# Altium footprint library OKmePCBLibrary.PcbLib: 197 footprints (part 7 of 13)
Each footprint in its own frame and in the unit in brackets; x right, y up, seen from the top. Pads: shape width x height; smd on the part's side, far side on the other; paste and mask are expansions set on the pad; w line width, h text height; cw(c..) or ccw(c..) is an arc to the next point about the centre after c.
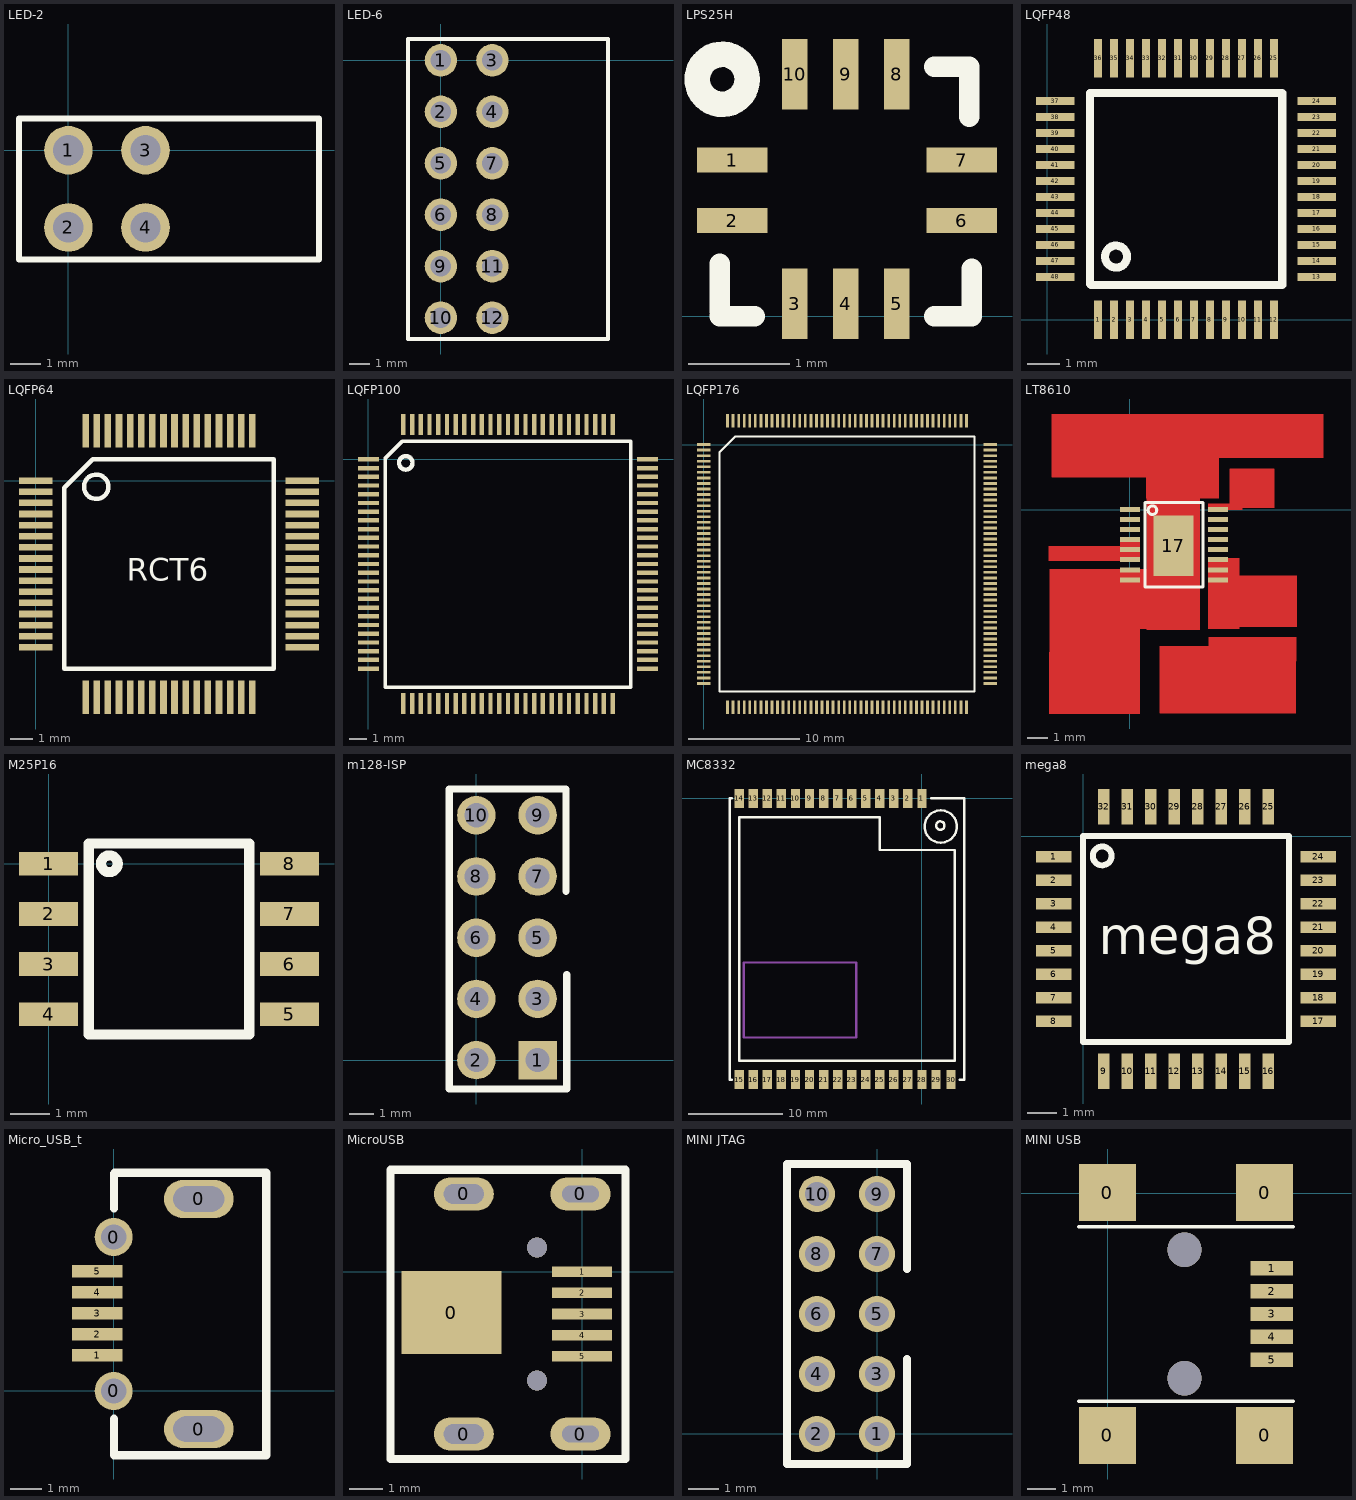
[diagram p6: the footprints below, top view; thin cyan lines are the x and y axes]

## LED-2 [mm]
pads (4):
  round 1.6 hole 1: 1(0,0) 2(0,-2.54) 3(2.54,0) 4(2.54,-2.54)
Top Overlay:
  lines w0.2: -1.625,-3.6 8.25,-3.6 8.25,1.05 -1.625,1.05 -1.625,-3.6

## LED-6 [mm]
pads (12):
  round 1.6 hole 1: 1(0,0) 2(0,-2.54) 3(2.54,0) 4(2.54,-2.54) 5(0,-5.08) 6(0,-7.62) 7(2.54,-5.08) 8(2.54,-7.62) 9(0,-10.16) 10(0,-12.7) 11(2.54,-10.16) 12(2.54,-12.7)
Top Overlay:
  lines w0.2: -1.625,-13.75 -1.625,1.05 8.25,1.05 8.25,-13.75 -1.625,-13.75

## LPS25H [mm]
pads (10):
  rect 0.7x0.25 smd: 1(0.675,1.55) 2(0.675,0.95) 6(2.95,0.95) 7(2.95,1.55)
  rect 0.25x0.7 smd: 3(1.295,0.125) 4(1.8,0.125) 5(2.305,0.125) 8(2.305,2.4) 9(1.8,2.4) 10(1.295,2.4)
Top Overlay:
  circle w0.254: c0.575,2.35 r0.247
  lines w0.2: 0.55,0 0.9,0 ; 0.55,0.05 0.55,0.525 ; 2.675,0 3.05,0 3.05,0.475 ; 2.675,2.475 3.025,2.475 3.025,1.975

## LQFP48 [mm]
pads (48):
  rect 0.25x1.2 smd: 1(1.6,0) 2(2.1,0) 3(2.6,0) 4(3.1,0) 5(3.6,0) 6(4.1,0) 7(4.6,0) 8(5.1,0) 9(5.6,0) 10(6.1,0) 11(6.6,0) 12(7.1,0) 25(7.1,8.2) 26(6.6,8.2) 27(6.1,8.2) 28(5.6,8.2) 29(5.1,8.2) 30(4.6,8.2) 31(4.1,8.2) 32(3.6,8.2) 33(3.1,8.2) 34(2.6,8.2) 35(2.1,8.2) 36(1.6,8.2)
  rect 1.2x0.25 smd: 13(8.45,1.35) 14(8.45,1.85) 15(8.45,2.35) 16(8.45,2.85) 17(8.45,3.35) 18(8.45,3.85) 19(8.45,4.35) 20(8.45,4.85) 21(8.45,5.35) 22(8.45,5.85) 23(8.45,6.35) 24(8.45,6.85) 37(0.25,6.85) 38(0.25,6.35) 39(0.25,5.85) 40(0.25,5.35) 41(0.25,4.85) 42(0.25,4.35) 43(0.25,3.85) 44(0.25,3.35) 45(0.25,2.85) 46(0.25,2.35) 47(0.25,1.85) 48(0.25,1.35)
Top Overlay:
  circle w0.254: c2.159,1.981 r0.345
  lines w0.254: 1.346,1.118 1.346,7.112 7.366,7.112 7.366,1.092 1.371,1.092 1.346,1.118

## LQFP64 [mm]
pads (64):
  rect 1.5x0.3 smd: 1(0,0) 2(0,-0.5) 3(0,-1) 4(0,-1.5) 5(0,-2) 6(0,-2.5) 7(0,-3) 8(0,-3.5) 9(0,-4) 10(0,-4.5) 11(0,-5) 12(0,-5.5) 13(0,-6) 14(0,-6.5) 15(0,-7) 16(0,-7.5) 33(12,-7.5) 34(12,-7) 35(12,-6.5) 36(12,-6) 37(12,-5.5) 38(12,-5) 39(12,-4.5) 40(12,-4) 41(12,-3.5) 42(12,-3) 43(12,-2.5) 44(12,-2) 45(12,-1.5) 46(12,-1) 47(12,-0.5) 48(12,0)
  rect 0.3x1.5 smd: 17(2.25,-9.75) 18(2.75,-9.75) 19(3.25,-9.75) 20(3.75,-9.75) 21(4.25,-9.75) 22(4.75,-9.75) 23(5.25,-9.75) 24(5.75,-9.75) 25(6.25,-9.75) 26(6.75,-9.75) 27(7.25,-9.75) 28(7.75,-9.75) 29(8.25,-9.75) 30(8.75,-9.75) 31(9.25,-9.75) 32(9.75,-9.75) 49(9.75,2.25) 50(9.25,2.25) 51(8.75,2.25) 52(8.25,2.25) 53(7.75,2.25) 54(7.25,2.25) 55(6.75,2.25) 56(6.25,2.25) 57(5.75,2.25) 58(5.25,2.25) 59(4.75,2.25) 60(4.25,2.25) 61(3.75,2.25) 62(3.25,2.25) 63(2.75,2.25) 64(2.25,2.25)
Top Overlay:
  circle w0.203: c2.725,-0.275 r0.548
  lines w0.2: 1.285,-8.465 1.285,-0.32 2.57,0.965 10.715,0.965 10.715,-8.465 1.285,-8.465
  text "RCT6" at 4.1,-4.5 h1.02

## LQFP100 [mm]
pads (100):
  rect 1.2x0.25 smd: 1(0,0) 2(0,-0.5) 3(0,-1) 4(0,-1.5) 5(0,-2) 6(0,-2.5) 7(0,-3) 8(0,-3.5) 9(0,-4) 10(0,-4.5) 11(0,-5) 12(0,-5.5) 13(0,-6) 14(0,-6.5) 15(0,-7) 16(0,-7.5) 17(0,-8) 18(0,-8.5) 19(0,-9) 20(0,-9.5) 21(0,-10) 22(0,-10.5) 23(0,-11) 24(0,-11.5) 25(0,-12) 51(16,-12) 52(16,-11.5) 53(16,-11) 54(16,-10.5) 55(16,-10) 56(16,-9.5) 57(16,-9) 58(16,-8.5) 59(16,-8) 60(16,-7.5) 61(16,-7) 62(16,-6.5) 63(16,-6) 64(16,-5.5) 65(16,-5) 66(16,-4.5) 67(16,-4) 68(16,-3.5) 69(16,-3) 70(16,-2.5) 71(16,-2) 72(16,-1.5) 73(16,-1) 74(16,-0.5) 75(16,0)
  rect 0.25x1.2 smd: 26(2,-14) 27(2.5,-14) 28(3,-14) 29(3.5,-14) 30(4,-14) 31(4.5,-14) 32(5,-14) 33(5.5,-14) 34(6,-14) 35(6.5,-14) 36(7,-14) 37(7.5,-14) 38(8,-14) 39(8.5,-14) 40(9,-14) 41(9.5,-14) 42(10,-14) 43(10.5,-14) 44(11,-14) 45(11.5,-14) 46(12,-14) 47(12.5,-14) 48(13,-14) 49(13.5,-14) 50(14,-14) 76(14,2) 77(13.5,2) 78(13,2) 79(12.5,2) 80(12,2) 81(11.5,2) 82(11,2) 83(10.5,2) 84(10,2) 85(9.5,2) 86(9,2) 87(8.5,2) 88(8,2) 89(7.5,2) 90(7,2) 91(6.5,2) 92(6,2) 93(5.5,2) 94(5,2) 95(4.5,2) 96(4,2) 97(3.5,2) 98(3,2) 99(2.5,2) 100(2,2)
Top Overlay:
  lines w0.2: 0.95,-13.075 15.05,-13.075 15.05,1.025 1.925,1.025 0.95,0.05 0.95,-13.075
  lines w0.254: 2.524,-0.166 ccw(c2.137,-0.2) 2.525,-0.2

## LQFP176 [mm]
pads (176):
  rect 1.2x0.25 smd: 1(0,0) 2(0,-0.5) 3(0,-1) 4(0,-1.5) 5(0,-2) 6(0,-2.5) 7(0,-3) 8(0,-3.5) 9(0,-4) 10(0,-4.5) 11(0,-5) 12(0,-5.5) 13(0,-6) 14(0,-6.5) 15(0,-7) 16(0,-7.5) 17(0,-8) 18(0,-8.5) 19(0,-9) 20(0,-9.5) 21(0,-10) 22(0,-10.5) 23(0,-11) 24(0,-11.5) 25(0,-12) 26(0,-12.5) 27(0,-13) 28(0,-13.5) 29(0,-14) 30(0,-14.5) 31(0,-15) 32(0,-15.5) 33(0,-16) 34(0,-16.5) 35(0,-17) 36(0,-17.5) 37(0,-18) 38(0,-18.5) 39(0,-19) 40(0,-19.5) 41(0,-20) 42(0,-20.5) 43(0,-21) 44(0,-21.5) 89(25.8,-21.5) 90(25.8,-21) 91(25.8,-20.5) 92(25.8,-20) 93(25.8,-19.5) 94(25.8,-19) 95(25.8,-18.5) 96(25.8,-18) 97(25.8,-17.5) 98(25.8,-17) 99(25.8,-16.5) 100(25.8,-16) 101(25.8,-15.5) 102(25.8,-15) 103(25.8,-14.5) 104(25.8,-14) 105(25.8,-13.5) 106(25.8,-13) 107(25.8,-12.5) 108(25.8,-12) 109(25.8,-11.5) 110(25.8,-11) 111(25.8,-10.5) 112(25.8,-10) 113(25.8,-9.5) 114(25.8,-9) 115(25.8,-8.5) 116(25.8,-8) 117(25.8,-7.5) 118(25.8,-7) 119(25.8,-6.5) 120(25.8,-6) 121(25.8,-5.5) 122(25.8,-5) 123(25.8,-4.5) 124(25.8,-4) 125(25.8,-3.5) 126(25.8,-3) 127(25.8,-2.5) 128(25.8,-2) 129(25.8,-1.5) 130(25.8,-1) 131(25.8,-0.5) 132(25.8,0)
  rect 0.25x1.2 smd: 45(2.15,-23.65) 46(2.65,-23.65) 47(3.15,-23.65) 48(3.65,-23.65) 49(4.15,-23.65) 50(4.65,-23.65) 51(5.15,-23.65) 52(5.65,-23.65) 53(6.15,-23.65) 54(6.65,-23.65) 55(7.15,-23.65) 56(7.65,-23.65) 57(8.15,-23.65) 58(8.65,-23.65) 59(9.15,-23.65) 60(9.65,-23.65) 61(10.15,-23.65) 62(10.65,-23.65) 63(11.15,-23.65) 64(11.65,-23.65) 65(12.15,-23.65) 66(12.65,-23.65) 67(13.15,-23.65) 68(13.65,-23.65) 69(14.15,-23.65) 70(14.65,-23.65) 71(15.15,-23.65) 72(15.65,-23.65) 73(16.15,-23.65) 74(16.65,-23.65) 75(17.15,-23.65) 76(17.65,-23.65) 77(18.15,-23.65) 78(18.65,-23.65) 79(19.15,-23.65) 80(19.65,-23.65) 81(20.15,-23.65) 82(20.65,-23.65) 83(21.15,-23.65) 84(21.65,-23.65) 85(22.15,-23.65) 86(22.65,-23.65) 87(23.15,-23.65) 88(23.65,-23.65) 133(23.65,2.15) 134(23.15,2.15) 135(22.65,2.15) 136(22.15,2.15) 137(21.65,2.15) 138(21.15,2.15) 139(20.65,2.15) 140(20.15,2.15) 141(19.65,2.15) 142(19.15,2.15) 143(18.65,2.15) 144(18.15,2.15) 145(17.65,2.15) 146(17.15,2.15) 147(16.65,2.15) 148(16.15,2.15) 149(15.65,2.15) 150(15.15,2.15) 151(14.65,2.15) 152(14.15,2.15) 153(13.65,2.15) 154(13.15,2.15) 155(12.65,2.15) 156(12.15,2.15) 157(11.65,2.15) 158(11.15,2.15) 159(10.65,2.15) 160(10.15,2.15) 161(9.65,2.15) 162(9.15,2.15) 163(8.65,2.15) 164(8.15,2.15) 165(7.65,2.15) 166(7.15,2.15) 167(6.65,2.15) 168(6.15,2.15) 169(5.65,2.15) 170(5.15,2.15) 171(4.65,2.15) 172(4.15,2.15) 173(3.65,2.15) 174(3.15,2.15) 175(2.65,2.15) 176(2.15,2.15)
Top Overlay:
  lines w0.2: 1.435,-22.215 1.435,-0.665 2.815,0.715 24.365,0.715 24.365,-22.215 1.435,-22.215

## LT8610 [mm]
pads (17):
  rect 1x0.25 smd: 1(0,0) 2(0,-0.5) 3(0,-1) 4(0,-1.5) 5(0,-2) 6(0,-2.5) 7(0,-3) 8(0,-3.5) 9(4.4,-3.5) 10(4.4,-3) 11(4.4,-2.5) 12(4.4,-2) 13(4.4,-1.5) 14(4.4,-1) 15(4.4,-0.5) 16(4.4,0)
  rect 2x3 smd: 17(2.175,-1.8)
Top Layer:
  rectangle: -3.925,1.6 0.825,3.675
  rectangle: 4.975,0.075 7.225,2.05
  rectangle: 3.9,-0.025 5.625,0.3
  rectangle: -4.075,-2.575 0.5,-1.825
  rectangle: -4.025,-5.95 2.975,-2.95
  rectangle: 0.8,0.55 4.45,2.65
  rectangle: 0.825,-6 3.5,0.775
  rectangle: -3.925,2.575 9.675,4.775
  rectangle: -4.025,-7.1 0.5,-5.1
  rectangle: -4.05,-10.2 0.5,-7.1
  rectangle: 1.475,-10.175 8.3,-6.8
  rectangle: 3.925,-7.575 8.325,-6.35
  rectangle: 3.9,-5.95 5.475,-2.425
  rectangle: 5.35,-5.85 8.35,-3.275
  rectangle: -0.5,-2.05 0.5,-1.375
  rectangle: -0.15,-1.775 0.275,-1.675
Top Overlay:
  circle w0.15: c1.125,-0.025 r0.215
  lines w0.15: 0.75,-3.85 3.65,-3.85 3.65,0.35 0.75,0.35 0.75,-0.7 0.75,-2.8 0.75,-3.85

## M25P16 [mm]
pads (8):
  rect 1.5x0.6 smd: 1(0,0) 2(0,-1.27) 3(0,-2.54) 4(0,-3.81) 5(6.096,-3.81) 6(6.096,-2.54) 7(6.096,-1.27) 8(6.096,0)
Top Overlay:
  circle w0.254: c1.538,0 r0.212
  lines w0.254: 1.016,-4.318 1.016,0.508 5.08,0.508 5.08,-4.318 1.016,-4.318

## m128-ISP [mm]
pads (10):
  rect 1.6x1.6 hole 1: 1(2.54,0)
  round 1.6 hole 1: 2(0,0) 3(2.54,2.54) 4(0,2.54) 5(2.54,5.08) 6(0,5.08) 7(2.54,7.62) 8(0,7.62) 9(2.54,10.16) 10(0,10.16)
Top Overlay:
  lines w0.3: 3.725,7 3.725,11.25 -1.125,11.25 -1.125,-1.2 3.75,-1.2 3.75,3.55

## MC8332 [mm]
pads (30):
  rect 1x2 smd: 1(0,0) 2(-1.5,0) 3(-3,0) 4(-4.5,0) 5(-6,0) 6(-7.5,0) 7(-9,0) 8(-10.5,0) 9(-12,0) 10(-13.5,0) 11(-15,0) 12(-16.5,0) 13(-18,0) 14(-19.5,0) 15(-19.5,-30) 16(-18,-30) 17(-16.5,-30) 18(-15,-30) 19(-13.5,-30) 20(-12,-30) 21(-10.5,-30) 22(-9,-30) 23(-7.5,-30) 24(-6,-30) 25(-4.5,-30) 26(-3,-30) 27(-1.5,-30) 28(0,-30) 29(1.5,-30) 30(3.1,-30)
Top Overlay:
  circle w0.254: c1.953,-2.9 r0.447
  circle w0.254: c2,-3 r1.72
  lines w0.25: -20.3,-30 -20.5,-30 -20.5,0 -20.3,0 ; 1,0 4.5,0 4.5,-30 4,-30 ; -19.5,-28 3.5,-28 3.5,-5.5 -4.5,-5.5 -4.5,-2 -19.5,-2 -19.5,-28
Mechanical 1:
  lines w0.25: -19,-25.5 -9.5,-25.5 -7,-25.5 -7,-17.5 -19,-17.5 -19,-25.5

## mega8 [mm]
pads (32):
  rect 1.2x0.4 smd: 1(-1,-0.7) 2(-1,-1.5) 3(-1,-2.3) 4(-1,-3.1) 5(-1,-3.9) 6(-1,-4.7) 7(-1,-5.5) 8(-1,-6.3) 17(8,-6.3) 18(8,-5.5) 19(8,-4.7) 20(8,-3.9) 21(8,-3.1) 22(8,-2.3) 23(8,-1.5) 24(8,-0.7)
  rect 0.4x1.2 smd: 9(0.7,-8) 10(1.5,-8) 11(2.3,-8) 12(3.1,-8) 13(3.9,-8) 14(4.7,-8) 15(5.5,-8) 16(6.3,-8) 25(6.3,1) 26(5.5,1) 27(4.7,1) 28(3.9,1) 29(3.1,1) 30(2.3,1) 31(1.5,1) 32(0.7,1)
Top Overlay:
  circle w0.203: c0.65,-0.675 r0.32
  lines w0.203: 0,-7 7,-7 7,0 0,0 0,-7
  text "mega8" at 0.525,-4.025 h1.27

## Micro_USB_t [mm]
pads (9):
  round 1.2 hole 0.8: 0(-0.005,0) 0(-0.005,4.85)
  oval 2.2x1.2 hole 0.8 slot 1.6 at 0 deg: 0(2.675,-1.2) 0(2.675,6.05)
  rect 1.6x0.4 smd: 1(-0.525,1.125) 2(-0.525,1.787) 3(-0.525,2.45) 4(-0.525,3.112) 5(-0.525,3.775)
Top Overlay:
  lines w0.254: 0,-0.875 0,-2.025 4.8,-2.025 4.8,6.875 0.675,6.875 0.025,6.875 0,6.85 0,5.75

## MicroUSB [mm]
pads (10):
  rect 3x2.5 smd: 0(-3.923,-1.225)
  oval 1.8x1 hole 0.6 slot 1.2 at 0 deg: 0(-3.55,-4.87) 0(-3.55,2.33)
  oval 1.8x1 hole 0.5 slot 1.1 at 0 deg: 0(-0.05,-4.87) 0(-0.05,2.33)
  rect 1.8x0.32 smd: 1(0,0) 2(0,-0.635) 3(0,-1.27) 4(0,-1.905) 5(0,-2.54)
via -1.35,-3.27 diameter 0.6 hole 0.6
via -1.35,0.73 diameter 0.6 hole 0.6
Top Overlay:
  lines w0.254: -5.75,-5.62 1.3,-5.62 1.3,3.055 -5.75,3.055 -5.75,-5.62

## MINI JTAG [mm]
pads (10):
  round 1.2 hole 0.8: 1(0,0) 2(-2,0) 3(0,2) 4(-2,2) 5(0,4) 6(-2,4) 7(0,6) 8(-2,6) 9(0,8) 10(-2,8)
Top Overlay:
  lines w0.254: 1,2.5 1,-1 -3,-1 -3,9 1,9 1,5.5

## MINI USB [mm]
pads (9):
  rect 2x2 smd: 0(-0.015,-8.483) 0(-0.015,0.017) 0(5.485,-8.483) 0(5.485,0.017)
  rect 1.5x0.5 smd: 1(5.735,-2.633) 2(5.735,-3.433) 3(5.735,-4.233) 4(5.735,-5.033) 5(5.735,-5.833)
via 2.685,-1.983 diameter 1.2 hole 1.2
via 2.685,-6.483 diameter 1.2 hole 1.2
Top Overlay:
  lines w0.127: -1.015,-7.283 6.485,-7.283 ; -1.015,-1.183 6.485,-1.183